# EAGLE library part LTC3558 (library linear-technology)
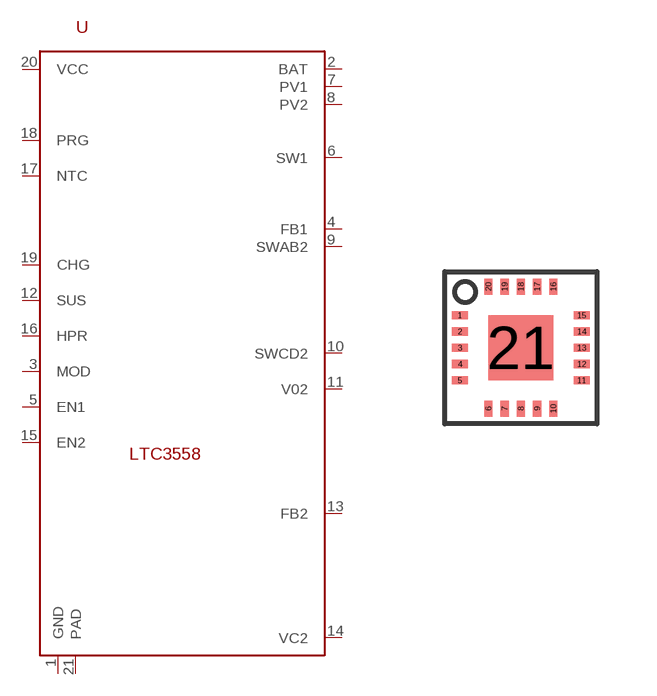
[diagram p24: symbol with the pads of QFN20; footprint QFN20]

Designator prefix -

## LTC3558  [QFN20]
1  GND
2  BAT
3  MOD
4  FB1
5  EN1
6  SW1
7  PV1
8  PV2
9  SWAB2
10  SWCD2
11  V02
12  SUS
13  FB2
14  VC2
15  EN2
16  HPR
17  NTC
18  PRG
19  CHG
20  VCC
21  PAD

## Footprint QFN20 (pad centres in mm)
smd 0.406 x 0.203: 1 -1.524,0.813; 2 -1.524,0.406; 3 -1.524,0; 4 -1.524,-0.406; 5 -1.524,-0.813; 11 1.524,-0.813; 12 1.524,-0.406; 13 1.524,0; 14 1.524,0.406; 15 1.524,0.813
smd 0.203 x 0.406: 6 -0.813,-1.524; 7 -0.406,-1.524; 8 0,-1.524; 9 0.406,-1.524; 10 0.813,-1.524; 16 0.813,1.524; 17 0.406,1.524; 18 0,1.524; 19 -0.406,1.524; 20 -0.813,1.524
smd 1.626 x 1.626: 21 0,0